# Altium footprint library SparkFun-IC-Power.PCBLIB: 31 footprints (part 2 of 2)
Each footprint in its own frame and in the unit in brackets; x right, y up, seen from the top. Pads: shape width x height; smd on the part's side, far side on the other; paste and mask are expansions set on the pad; w line width, h text height; cw(c..) or ccw(c..) is an arc to the next point about the centre after c.
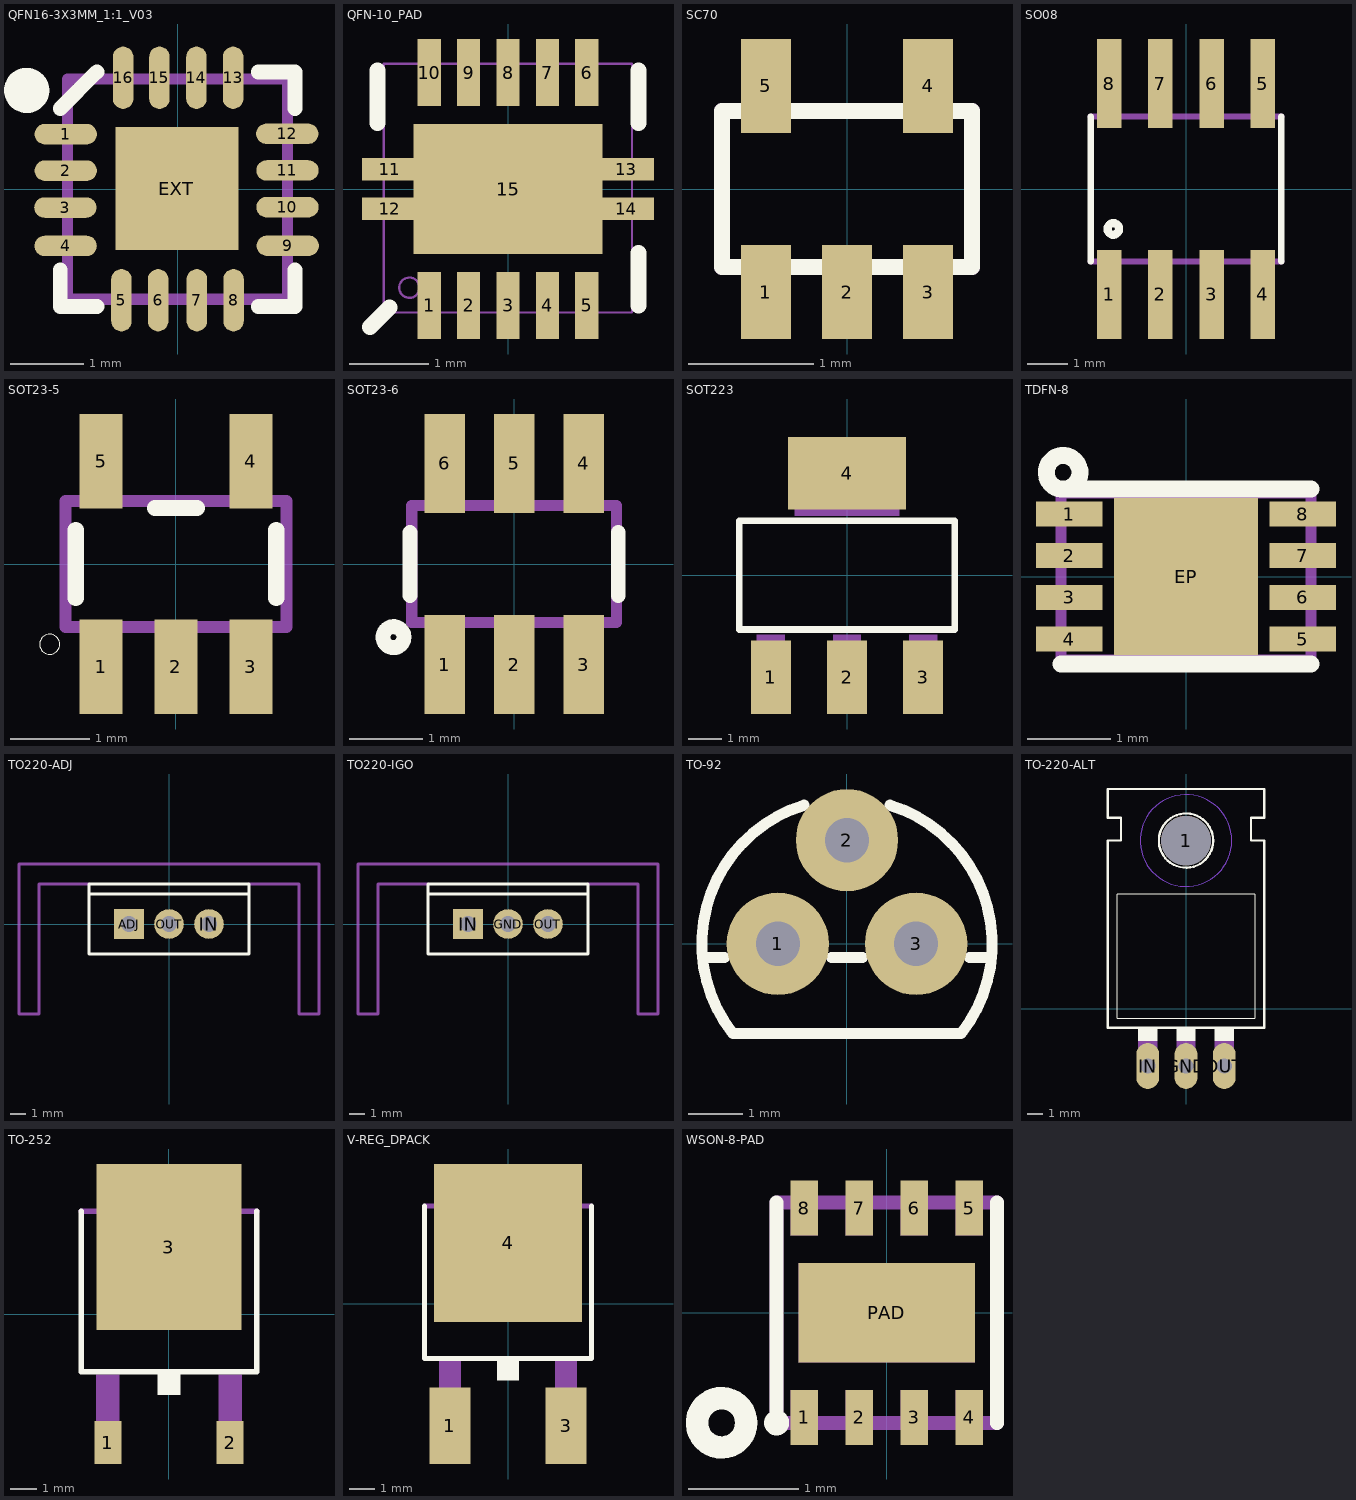
[diagram p1: the footprints below, top view; thin cyan lines are the x and y axes]

## QFN16-3X3MM_1:1_V03 [mm]
pads (17):
  rrect100% 0.85x0.28 smd: 1(-1.524,0.75) 2(-1.524,0.252) 3(-1.529,-0.25) 4(-1.527,-0.774) 9(1.503,-0.77) 10(1.498,-0.245) 11(1.498,0.255) 12(1.495,0.755)
  rrect100% 0.28x0.85 smd: 5(-0.765,-1.513) 6(-0.265,-1.513) 7(0.263,-1.513) 8(0.763,-1.513) 13(0.758,1.518) 14(0.258,1.518) 15(-0.247,1.518) 16(-0.742,1.518)
  rect 1.68x1.68 smd: EXT(-0.009,0.008)
Top Overlay:
  circle w0.406: c-2.057,1.346 r0.105
  lines w0.203: -1.6,-1.1 -1.6,-1.6 -1.1,-1.6 ; -1.6,1.1 -1.1,1.6 ; 1.1,-1.6 1.6,-1.6 1.6,-1.1 ; 1.1,1.6 1.6,1.6 1.6,1.1
Top Paste:
  rectangle: -0.305,-0.305 0.279,0.279
  lines w0.203: -1.853,-0.773 -1.407,-0.773 ; -1.853,-0.25 -1.406,-0.25 ; -1.851,0.252 -1.404,0.252 ; -1.85,0.751 -1.403,0.751 ; -0.765,-1.838 -0.765,-1.391 ; -0.742,1.396 -0.742,1.843 ; -0.265,-1.838 -0.265,-1.391 ; -0.247,1.399 -0.247,1.846 ; 0.258,1.399 0.258,1.846 ; 0.26,-1.838 0.26,-1.391 ; 0.758,1.396 0.758,1.843 ; 0.763,-1.841 0.763,-1.394 ; 1.399,-0.245 1.82,-0.245 ; 1.399,0.255 1.82,0.255 ; 1.402,0.755 1.818,0.755 ; 1.407,-0.768 1.828,-0.768
Mechanical 16:
  lines w0.152: -1.5,-1.5 -1.5,1.5 1.5,1.5 1.5,-1.5 -1.5,-1.5

## QFN-10_PAD [mm]
pads (15):
  rect 0.297x0.85 smd: 1(-1,-1.475) 2(-0.5,-1.475) 3(0,-1.475) 4(0.5,-1.475) 5(1,-1.475) 6(1,1.475) 7(0.5,1.475) 8(0,1.475) 9(-0.5,1.475) 10(-1,1.475)
  rect 0.7x0.28 smd: 11(-1.5,0.25) 12(-1.5,-0.25) 13(1.5,0.25) 14(1.5,-0.25)
  rect 2.4x1.65 smd: 15(0,0)
Top Overlay:
  lines w0.203: -1.75,-1.75 -1.5,-1.5 ; -1.651,0.838 -1.651,1.499 ; 1.651,-1.473 1.651,-0.813 ; 1.651,0.838 1.651,1.499
Top Paste:
  rectangle: -1.194,-0.432 1.194,0.432
  rectangle: -1.125,1.074 -0.876,1.88
  rectangle: -0.625,1.072 -0.376,1.877
  rectangle: -0.625,1.072 -0.376,1.877
  rectangle: -0.124,1.069 0.124,1.875
  rectangle: 0.376,1.072 0.625,1.877
  rectangle: 0.879,1.074 1.128,1.88
  rectangle: -1.125,-1.877 -0.876,-1.072
  rectangle: -0.625,-1.88 -0.376,-1.074
  rectangle: -0.124,-1.877 0.124,-1.072
  rectangle: 0.376,-1.872 0.625,-1.067
  rectangle: 0.876,-1.877 1.125,-1.072
Mechanical 16:
  circle w0.03: c-1.25,-1.25 r0.129
  lines w0.03: -1.575,-1.565 1.57,-1.565 1.57,1.585 -1.575,1.585 -1.575,-1.565

## SC70 [mm]
pads (5):
  rect 0.4x0.75 smd: 1(-0.65,-0.825) 2(0,-0.825) 3(0.65,-0.825) 4(0.65,0.825) 5(-0.65,0.825)
Top Overlay:
  lines w0.127: -1,-0.625 1,-0.625 1,0.625 -1,0.625 -1,-0.625
Top Paste:
  rectangle: -0.85,0.45 -0.45,1.2
  rectangle: 0.45,0.45 0.85,1.2
  rectangle: -0.838,-1.168 -0.508,-0.483
  rectangle: -0.165,-1.168 0.165,-0.483
  rectangle: 0.508,-1.168 0.838,-0.483
Mechanical 16:
  lines w0.127: -1,-0.625 -1,0.625 1,0.625 1,-0.625 -1,-0.625

## SO08 [mil]
pads (8):
  rect 24x87 smd: 1(-75,-103) 2(-25,-103) 3(25,-103) 4(75,-103) 5(75,103) 6(25,103) 7(-25,103) 8(-75,103)
Top Overlay:
  circle w8: c-71,-39 r5.65
  lines w6: -92.99,-70.98 -92.99,70.98 ; 92.99,-70.98 92.99,70.98
Mechanical 16:
  rectangle: -82,-113 -68,-73
  rectangle: -32,-113 -18,-73
  rectangle: 18,-113 32,-73
  rectangle: 68,-113 82,-73
  rectangle: -82,73 -68,113
  rectangle: -32,73 -18,113
  rectangle: 18,73 32,113
  rectangle: 68,73 82,113
  lines w6: -92.99,-70.98 92.99,-70.98 ; -92.99,70.98 92.99,70.98

## SOT23-5 [mm]
pads (5):
  rect 0.55x1.2 smd: 1(-0.95,-1.3) 2(0,-1.3) 3(0.95,-1.3) 4(0.95,1.3) 5(-0.95,1.3)
Top Overlay:
  circle w0: c-1.6,-1.016 r0.127
  lines w0.203: -1.27,-0.43 -1.27,0.43 ; -0.268,0.709 0.268,0.709 ; 1.27,-0.43 1.27,0.43
Mechanical 16:
  rectangle: -1.2,-1.5 -0.7,-0.85
  rectangle: -0.25,-1.5 0.25,-0.85
  rectangle: 0.7,-1.5 1.2,-0.85
  rectangle: 0.7,0.85 1.2,1.5
  rectangle: -1.2,0.85 -0.7,1.5
  lines w0.152: -1.4,-0.8 1.4,-0.8 1.4,0.8 -1.4,0.8 -1.4,-0.8

## SOT23-6 [mm]
pads (6):
  rect 0.55x1.35 smd: 1(-0.95,-1.375) 2(0,-1.375) 3(0.95,-1.375) 4(0.95,1.375) 5(0,1.375) 6(-0.95,1.375)
Top Overlay:
  circle w0.203: c-1.65,-1 r0.144
  lines w0.203: -1.422,-0.43 -1.422,0.43 ; 1.422,-0.43 1.422,0.43
Mechanical 16:
  rectangle: -1.2,-1.5 -0.7,-0.85
  rectangle: -0.25,-1.5 0.25,-0.85
  rectangle: 0.7,-1.5 1.2,-0.85
  rectangle: 0.7,0.85 1.2,1.5
  rectangle: -1.2,0.85 -0.7,1.5
  rectangle: -0.25,0.85 0.25,1.5
  lines w0.152: -1.4,-0.8 1.4,-0.8 1.4,0.8 -1.4,0.8 -1.4,-0.8

## SOT223 [mil]
pads (4):
  rect 48x88 smd: 1(-91,-122) 2(0,-122) 3(91,-122)
  rect 141.73x86.61 smd: 4(0,122.01)
Top Overlay:
  lines w8: -129,-65 -129,65 129,65 129,-65 -129,-65
Mechanical 16:
  rectangle: 74,-144 108,-71
  rectangle: -108,-144 -74,-71
  rectangle: -17,-144 17,-71
  rectangle: -63,71 63,144
  rectangle: 74,-144 108,-71
  rectangle: -108,-144 -74,-71
  rectangle: -17,-144 17,-71
  rectangle: -63,71 63,144
3D body: height 65.43, standoff -0.71, extent -127.96,-137.01 127.95,137

## TDFN-8 [mil]
pads (9):
  rect 31.5x11.81 smd: 1(-55.12,29.53) 2(-55.12,9.84) 3(-55.12,-9.84) 4(-55.12,-29.53) 5(55.12,-29.53) 6(55.12,-9.84) 7(55.12,9.84) 8(55.12,29.53)
  rect 68.11x74.02 smd: EP(0,0)
Top Overlay:
  lines w5: -59.06,41.34 -57.09,41.34
  lines w8: -59.06,-41.34 59.06,-41.34 ; -59.06,41.34 cw(c-58.08,49.22) -57.09,41.34 59.06,41.34
Top Paste:
  rectangle: -13,-13 13,13
  rectangle: -69.9,24.3 -40.2,34.7
  rectangle: -70,4.5 -40.3,14.9
  rectangle: -70,-15 -40.3,-4.6
  rectangle: -70,-34.8 -40.3,-24.4
  rectangle: 40.2,24.3 69.9,34.7
  rectangle: 40.3,4.7 70,15.1
  rectangle: 40.3,-15 70,-4.6
  rectangle: 40.4,-34.7 70.1,-24.3
Top Solder:
  rectangle: -70.87,23.62 -39.37,35.43
  rectangle: -70.87,23.62 -39.37,35.43
  rectangle: -70.87,-15.75 -39.37,-3.94
  rectangle: -70.87,3.94 -39.37,15.75
  rectangle: -70.87,-35.43 -39.37,-23.62
  rectangle: 39.37,23.62 70.87,35.43
  rectangle: 39.37,3.94 70.87,15.75
  rectangle: 39.37,-15.75 70.87,-3.94
  rectangle: 39.37,-35.43 70.87,-23.62
  rectangle: -34.06,-37.01 34.06,37.01
Mechanical 16:
  lines w5: -59.06,-39.37 -59.06,39.37 59.06,39.37 59.06,-39.37 -59.06,-39.37

## TO220-ADJ [mil]
pads (3):
  rect 74x74 hole 39.37: ADJ(-100,0)
  round 74 hole 39.37: IN(100,0) OUT(0,0)
Top Overlay:
  lines w8: -200,75 -200,-75 200,-75 200,75 ; -200,75 -200,100 200,100 200,75 ; -200,75 200,75
Mechanical 16:
  lines w8: -200,100 -325,100 -325,-225 -375,-225 -375,150 375,150 375,-225 325,-225 325,100 200,100

## TO220-IGO [mil]
pads (3):
  round 74 hole 39.37: GND(0,0) OUT(100,0)
  rect 74x74 hole 39.37: IN(-100,0)
Top Overlay:
  lines w8: -200,75 -200,-75 200,-75 200,75 ; -200,75 -200,100 200,100 200,75 ; -200,75 200,75
Mechanical 16:
  lines w8: -200,100 -325,100 -325,-225 -375,-225 -375,150 375,150 375,-225 325,-225 325,100 200,100

## TO-92 [mil]
pads (3):
  round 74 hole 32: 1(-50,0) 2(0,75) 3(50,0)
Top Overlay:
  lines w8: -104.52,-10 -88.73,-10 ; -30.96,100.33 ccw(c0,0) -82.46,-65 82.46,-65 ccw(c0,0) 30.96,100.33 ; -11.27,-10 11.27,-10 ; 88.73,-10 104.52,-10

## TO-220-ALT [mil]
pads (4):
  round 130 hole 130: 1(0,440)
  oval 60x120 hole 40: GND(0,-150) IN(-100,-150) OUT(100,-150)
Bottom Layer keep-out:
  circle w0: c0,440 r120
Top Overlay:
  circle w6: c0,440 r71
  rectangle: 75,-85 125,-50
  rectangle: -25,-85 25,-50
  rectangle: -125,-85 -75,-50
  lines w2: -180,-25 180,-25 180,300 -180,300 -180,-25
  lines w6: -205,-50 205,-50 205,440 170,440 170,500 205,500 205,575 -205,575 -205,500 -170,500 -170,440 -205,440 -205,-50
Mechanical 16:
  rectangle: 75,-150 125,-85
  rectangle: -25,-150 25,-85
  rectangle: -125,-150 -75,-85
  text "-" at -20,0 h77.5
  text "I" at -120,0 h77.5
  text "O" at 80,0 h77.5
Via Holes:
  circle w0: c0,440 r120

## TO-252 [mm]
pads (3):
  rect 1x1.6 smd: 1(-2.28,-4.8) 2(2.28,-4.8)
  rect 5.4x6.2 smd: 3(0,2.5)
Top Overlay:
  rectangle: -0.432,-3.023 0.432,-2.261
  lines w0.203: -3.277,3.835 -3.277,-2.159 3.277,-2.159 3.277,3.835
Mechanical 16:
  rectangle: -2.718,-5.156 -1.854,-2.261
  rectangle: 1.854,-5.156 2.718,-2.261
  region: 0,0 0.254,0 0.254,0.254 0,0.254
  lines w0.203: -3.277,3.835 3.277,3.835 ; -2.565,3.937 -2.565,4.648 -2.108,5.105 2.108,5.105 2.565,4.648 2.565,3.937 -2.565,3.937

## V-REG_DPACK [mm]
pads (3):
  rect 1.6x3 smd: 1(-2.28,-4.8) 3(2.28,-4.8)
  rect 5.8x6.2 smd: 4(0,2.38)
Top Overlay:
  rectangle: -0.432,-3.023 0.432,-2.261
  lines w0.203: -3.277,3.835 -3.277,-2.159 3.277,-2.159 3.277,3.835
Mechanical 16:
  rectangle: 1.854,-5.156 2.718,-2.261
  rectangle: -2.718,-5.156 -1.854,-2.261
  region: 0,0 0.254,0 0.254,0.254 0,0.254
  lines w0.203: -3.277,3.835 3.277,3.835 ; -2.565,3.937 2.565,3.937 2.565,4.648 2.108,5.105 -2.108,5.105 -2.565,4.648 -2.565,3.937

## WSON-8-PAD [mm]
pads (9):
  rect 0.25x0.5 smd: 1(-0.75,-0.95) 2(-0.25,-0.95) 3(0.25,-0.95) 4(0.75,-0.95) 5(0.75,0.95) 6(0.25,0.95) 7(-0.25,0.95) 8(-0.75,0.95)
  rect 1.6x0.9 smd: PAD(0,0)
Top Overlay:
  circle w0.127: c-1,-1 r0.05
  circle w0.203: c-1.5,-1 r0.224
  lines w0.127: -1,-1 -1,1 ; 1,-1 1,1
Top Paste:
  rectangle: -0.65,-0.35 0.65,0.35
Mechanical 16:
  circle w0.127: c-1.5,-1 r0.224
  rectangle: -0.8,-0.45 0.8,0.45
  rectangle: -0.375,-1 -0.125,-0.7
  rectangle: -0.875,-1 -0.625,-0.7
  rectangle: 0.125,-1 0.375,-0.7
  rectangle: 0.625,-1 0.875,-0.7
  region: 0.375,1 0.125,1 0.125,0.7 0.375,0.7
  region: 0.875,1 0.625,1 0.625,0.7 0.875,0.7
  region: -0.125,1 -0.375,1 -0.375,0.7 -0.125,0.7
  region: -0.625,1 -0.875,1 -0.875,0.7 -0.625,0.7
  lines w0.127: -1,-1 -1,1 1,1 1,-1 -1,-1